# Altium schematic symbol library Schlib1.SchLib: 3 symbols
Pins are listed as number, name and electrical type; pins without a type are passive.

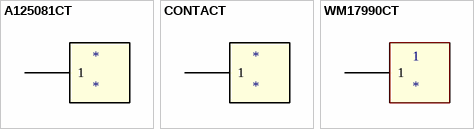
[diagram p0: symbols A125081CT to WM17990CT]

## A125081CT
designator *
footprint A125081CT-ND
pins: 1

## CONTACT
designator *
footprint CONTRACT PAD
pins: 1

## WM17990CT
designator 1
footprint WM17990CT-ND-l
footprint WM17990CT-ND-l
pins: 1